# EAGLE library part 1636РР52У (library memory)
АЕHB.431210.158 ТУ 1636РР52У - ЭППЗУ Flash-типа с последовательным интерфейсом объёмом 1 Мбит (128К х 8). Производитель: ЗАО "ПКК Миландр", г. Зеленоград, Москва. Технические условия: АЕHB.431210.158 ТУ
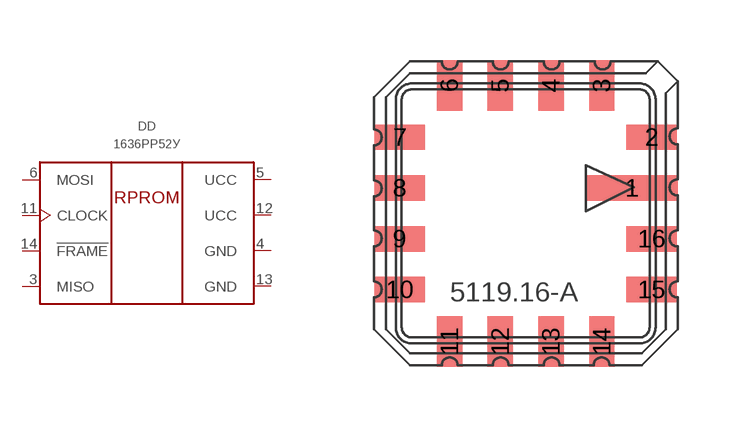
[diagram p0: symbol with the pads of 5119.16-А; footprint 5119.16-А]

Designator prefix DD

## 1636РР52У  [5119.16-А]
3  MISO  out
4  GND  pwr
5  UCC  pwr
6  MOSI  in
11  CLOCK  in
12  UCC  pwr
13  GND  pwr
14  !FRAME  in

## Footprint 5119.16-А (pad centres in mm)
smd 2.3 x 0.635: 1 2.66,0.635
smd 1.27 x 0.635: 2 3.15,1.905; 7 -3.15,1.905; 8 -3.15,0.635; 9 -3.15,-0.635; 10 -3.15,-1.905; 15 3.15,-1.905; 16 3.15,-0.635
smd 0.635 x 1.27: 3 1.905,3.2; 4 0.635,3.2; 5 -0.635,3.2; 6 -1.905,3.2; 11 -1.905,-3.2; 12 -0.635,-3.2; 13 0.635,-3.2; 14 1.905,-3.2